# Altium integrated library TI Data Converters Analog to Digital Converter.IntLib: 2197 symbols (part 92 of 168)
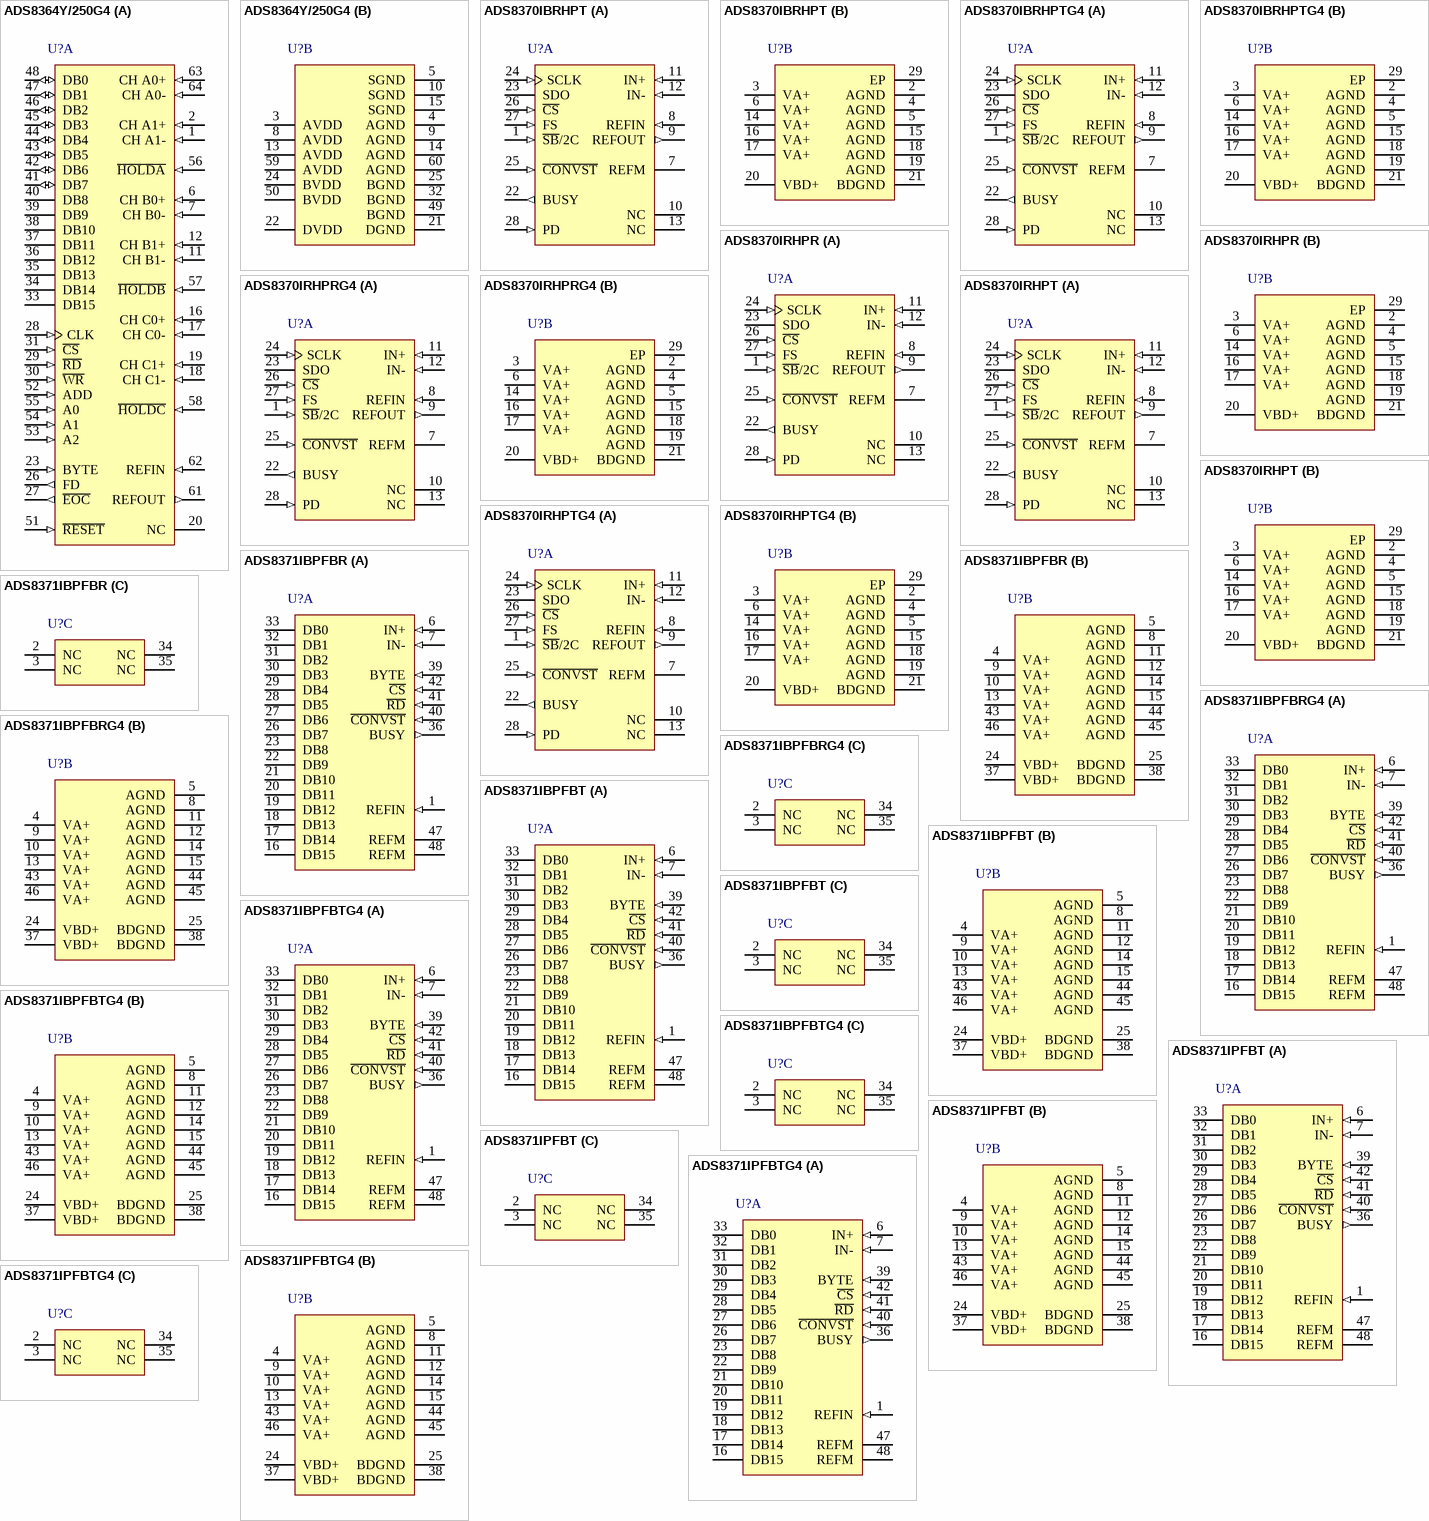
[diagram p217: symbols ADS8364Y/250G4 to ADS8371IPFBTG4]

## ADS8371IPFBT
designator U?
16-Bit 750-kHz Unipolar Input Micro Power Sampling ADC Converter with Parallel, -40 to 85 degC, 48-pin QFP (PFB48), Green (RoHS & no Sb/Br); Manufacturer: Texas Instruments; PartNumber: ADS8371IPFBT; # Input Channels: 1; Analog Voltage AV/DD(Max)(V): 5.25; Analog Voltage AV/DD(Min)(V): 4.75; Architecture: SAR; Digital Supply(Min)(V): 2.7; INL(Max)(+/-LSB): 2.5; Interface: Parallel CMOS; Resolution(Bits): 16; Sample Rate (max)(SPS): 750k; SFDR(dB): 106; SINAD(dB): 87; SubFamily: Precision ADC (<=10MSPS); DatasheetVersion: SLAS390B; PackageVersion: 4073176/B, 10/1996; PackageReference: PFB48; PackageDescription: 48-Pin Plastic Flat Pack, Body 7 x 7 mm, Pitch 0.5 mm; Supplier 1: Digi-Key; Supplier Part Number 1: ADS7812UB/1KE4-ND; Supplier 2: Mouser; Supplier Part Number 2: 595-ADS7812UB/1KE4; Digital Supply(Max)(V): 5.25; Eco-Plan: Green (RoHS & no Sb/Br); SNR(dB): 87; Mounting Technology: Surface Mount; Code_JEDEC: MS-026; ComponentLink1Description: Manufacturer URL; ComponentLink1URL: http://www.ti.com/; ComponentLink2Description: Datasheet; ComponentLink2URL: http://www.ti.com/general/docs/lit/getliterature.tsp?genericPartNumber=ADS8371&fileType=pdf; ComponentLink3Description: Package Specification; ComponentLink3URL: http://www.ti.com/lit/ml/mtqf019a/mtqf019a.pdf
footprint TI-PFB48_N (QFP, 48-Leads, Body 7x7mm, Pitch 0.5mm, IPC Medium Density)
footprint TI-PFB48_L (QFP, 48-Leads, Body 7x7mm, Pitch 0.5mm, IPC High Density)
footprint TI-PFB48_M (QFP, 48-Leads, Body 7x7mm, Pitch 0.5mm, IPC Low Density)
part A pins: 1 REFIN (in) "Reference input.", 6 IN+ (in) "Noninverting input channel", 7 IN- (in) "Inverting input channel", 16 DB15 (hiz), 17 DB14 (hiz), 18 DB13 (hiz), 19 DB12 (hiz), 20 DB11 (hiz), 21 DB10 (hiz), 22 DB9 (hiz), 23 DB8 (hiz), 26 DB7 (hiz), 27 DB6 (hiz), 28 DB5 (hiz), 29 DB4 (hiz), 30 DB3 (hiz), 31 DB2 (hiz), 32 DB1 (hiz), 33 DB0 (hiz), 36 BUSY (out) "Status output. High when a conversion is in progress.", 39 BYTE (in) "Byte select input. Used for 8-bit bus reading. 0: No fold back 1: Low byte D[7:0] of the 16 most significant bits is folded back to high byte of the 16 most significant pins DB[15:8].", 40 ~{CONVST} (in) "Convert start. The falling edge of this input ends the acquisition period and starts the hold period.", 41 ~{RD} (in) "Synchronization pulse for the parallel output. When C\S\ is low, this serves as the output enable and puts the previous conversion result on the bus.", 42 ~{CS} (in) "Chip select. The falling edge of this input starts the acquisition period.", 47 REFM (power) "Reference ground.", 48 REFM (power) "Reference ground."
part B pins: 4 VA+ (power) "Analog power supplies, 5-V dc", 5 AGND (power) "Analog ground", 8 AGND (power) "Analog ground", 9 VA+ (power) "Analog power supplies, 5-V dc", 10 VA+ (power) "Analog power supplies, 5-V dc", 11 AGND (power) "Analog ground", 12 AGND (power) "Analog ground", 13 VA+ (power) "Analog power supplies, 5-V dc", 14 AGND (power) "Analog ground", 15 AGND (power) "Analog ground", 24 VBD+ (power) "Digital power supply for buffer", 25 BDGND (power) "Digital ground for buffer supply", 37 VBD+ (power) "Digital power supply for buffer", 38 BDGND (power) "Digital ground for buffer supply", 43 VA+ (power) "Analog power supplies, 5-V dc", 44 AGND (power) "Analog ground", 45 AGND (power) "Analog ground", 46 VA+ (power) "Analog power supplies, 5-V dc"
part C pins: 2 NC "No connection", 3 NC "No connection", 34 NC "No connection", 35 NC "No connection"

## ADS8371IPFBTG4
designator U?
16-Bit 750-kHz Unipolar Input Micro Power Sampling ADC Converter with Parallel, -40 to 85 degC, 48-pin QFP (PFB48), Green (RoHS & no Sb/Br); Manufacturer: Texas Instruments; PartNumber: ADS8371IPFBTG4; # Input Channels: 1; Analog Voltage AV/DD(Max)(V): 5.25; Analog Voltage AV/DD(Min)(V): 4.75; Architecture: SAR; Digital Supply(Min)(V): 2.7; INL(Max)(+/-LSB): 2.5; Interface: Parallel CMOS; Resolution(Bits): 16; Sample Rate (max)(SPS): 750k; SFDR(dB): 106; SINAD(dB): 87; SubFamily: Precision ADC (<=10MSPS); DatasheetVersion: SLAS390B; PackageVersion: 4073176/B, 10/1996; PackageReference: PFB48; PackageDescription: 48-Pin Plastic Flat Pack, Body 7 x 7 mm, Pitch 0.5 mm; Supplier 1: Digi-Key; Supplier Part Number 1: ADS7812UB/1KG4-ND; Supplier 2: Mouser; Supplier Part Number 2: 595-ADS7812UB/1KG4; Digital Supply(Max)(V): 5.25; Eco-Plan: Green (RoHS & no Sb/Br); SNR(dB): 87; Mounting Technology: Surface Mount; Code_JEDEC: MS-026; ComponentLink1Description: Manufacturer URL; ComponentLink1URL: http://www.ti.com/; ComponentLink2Description: Datasheet; ComponentLink2URL: http://www.ti.com/general/docs/lit/getliterature.tsp?genericPartNumber=ADS8371&fileType=pdf; ComponentLink3Description: Package Specification; ComponentLink3URL: http://www.ti.com/lit/ml/mtqf019a/mtqf019a.pdf
footprint TI-PFB48_N (QFP, 48-Leads, Body 7x7mm, Pitch 0.5mm, IPC Medium Density)
footprint TI-PFB48_L (QFP, 48-Leads, Body 7x7mm, Pitch 0.5mm, IPC High Density)
footprint TI-PFB48_M (QFP, 48-Leads, Body 7x7mm, Pitch 0.5mm, IPC Low Density)
part A pins: 1 REFIN (in) "Reference input.", 6 IN+ (in) "Noninverting input channel", 7 IN- (in) "Inverting input channel", 16 DB15 (hiz), 17 DB14 (hiz), 18 DB13 (hiz), 19 DB12 (hiz), 20 DB11 (hiz), 21 DB10 (hiz), 22 DB9 (hiz), 23 DB8 (hiz), 26 DB7 (hiz), 27 DB6 (hiz), 28 DB5 (hiz), 29 DB4 (hiz), 30 DB3 (hiz), 31 DB2 (hiz), 32 DB1 (hiz), 33 DB0 (hiz), 36 BUSY (out) "Status output. High when a conversion is in progress.", 39 BYTE (in) "Byte select input. Used for 8-bit bus reading. 0: No fold back 1: Low byte D[7:0] of the 16 most significant bits is folded back to high byte of the 16 most significant pins DB[15:8].", 40 ~{CONVST} (in) "Convert start. The falling edge of this input ends the acquisition period and starts the hold period.", 41 ~{RD} (in) "Synchronization pulse for the parallel output. When C\S\ is low, this serves as the output enable and puts the previous conversion result on the bus.", 42 ~{CS} (in) "Chip select. The falling edge of this input starts the acquisition period.", 47 REFM (power) "Reference ground.", 48 REFM (power) "Reference ground."
part B pins: 4 VA+ (power) "Analog power supplies, 5-V dc", 5 AGND (power) "Analog ground", 8 AGND (power) "Analog ground", 9 VA+ (power) "Analog power supplies, 5-V dc", 10 VA+ (power) "Analog power supplies, 5-V dc", 11 AGND (power) "Analog ground", 12 AGND (power) "Analog ground", 13 VA+ (power) "Analog power supplies, 5-V dc", 14 AGND (power) "Analog ground", 15 AGND (power) "Analog ground", 24 VBD+ (power) "Digital power supply for buffer", 25 BDGND (power) "Digital ground for buffer supply", 37 VBD+ (power) "Digital power supply for buffer", 38 BDGND (power) "Digital ground for buffer supply", 43 VA+ (power) "Analog power supplies, 5-V dc", 44 AGND (power) "Analog ground", 45 AGND (power) "Analog ground", 46 VA+ (power) "Analog power supplies, 5-V dc"
part C pins: 2 NC "No connection", 3 NC "No connection", 34 NC "No connection", 35 NC "No connection"

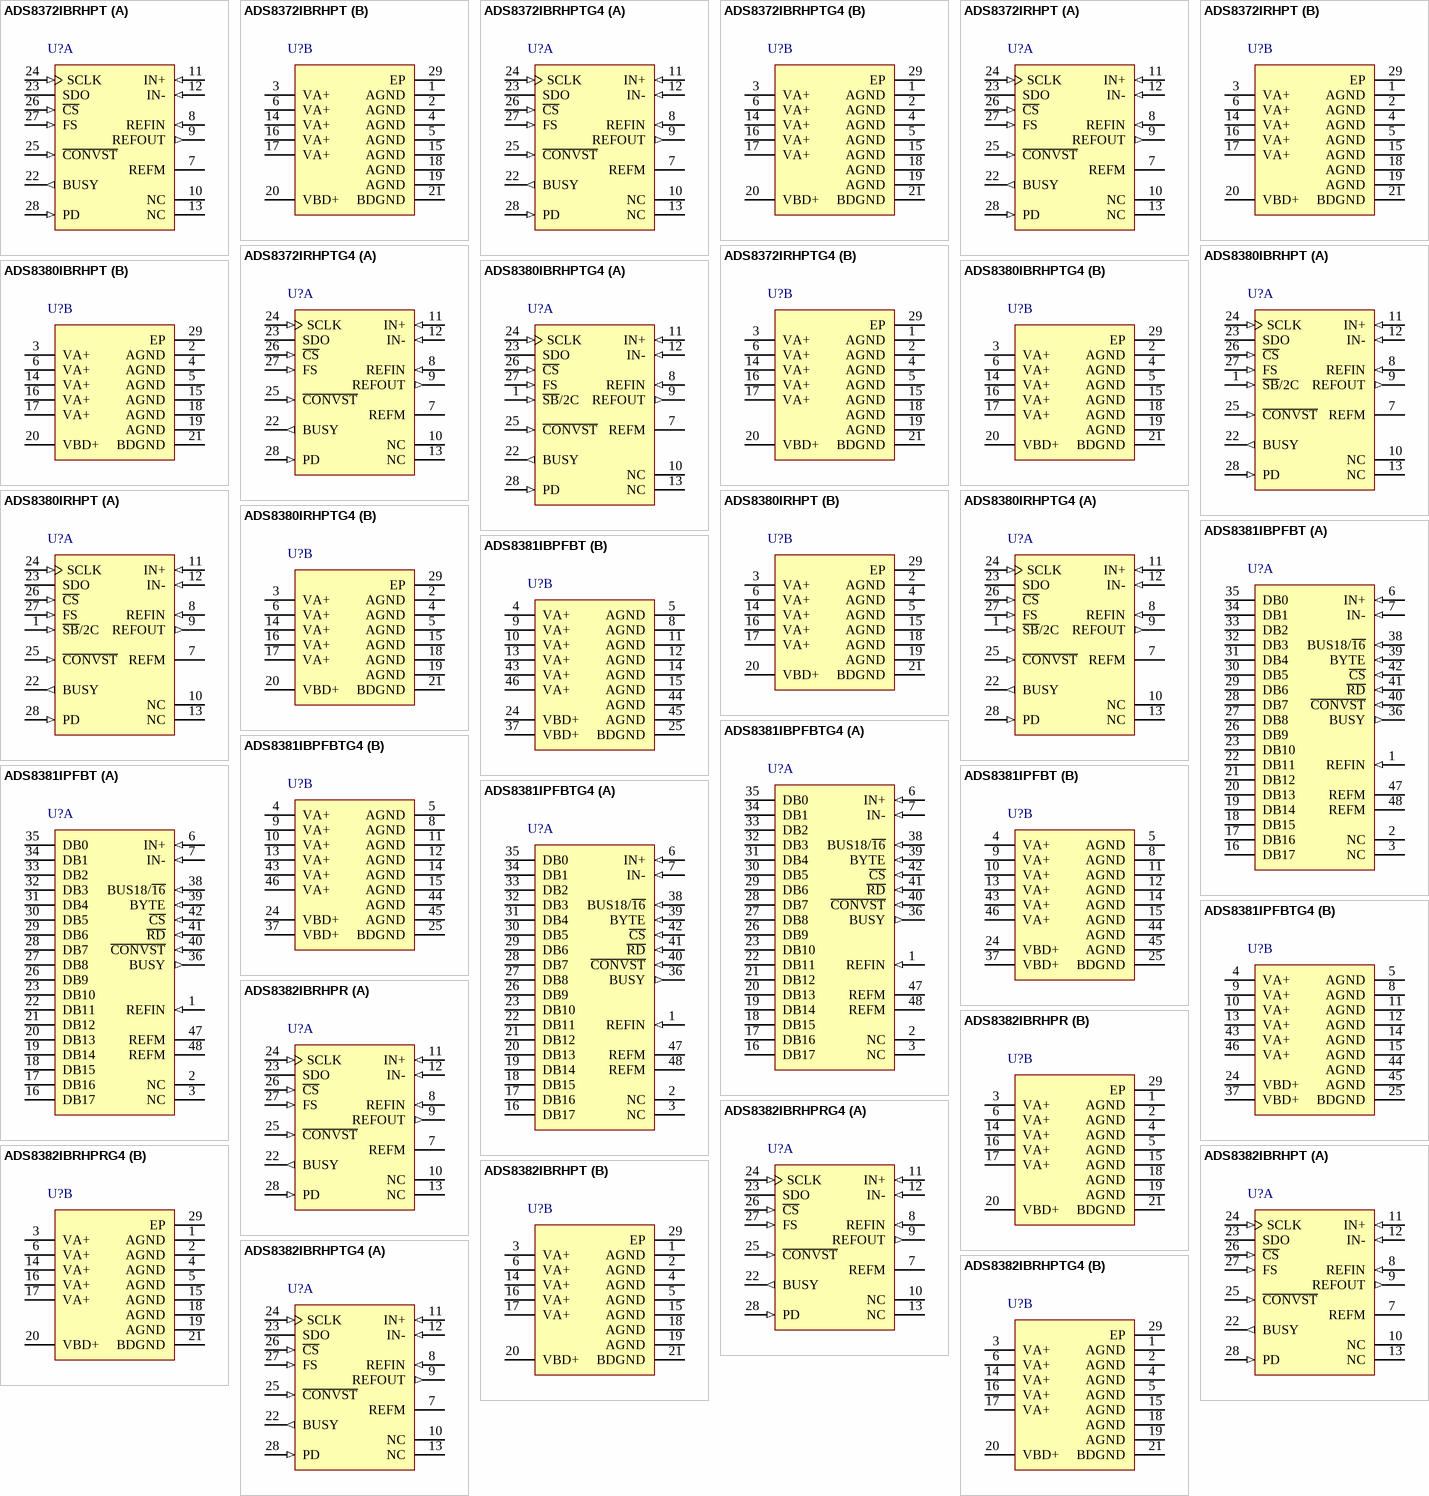
[diagram p79: symbols ADS8372IBRHPT to ADS8382IBRHPTG4]

## ADS8372IBRHPT
designator U?
16-Bit 600 kSPS Serial ADC with Reference and Pseudo Bipolar, Fully Differential Input, -40 to 85 degC, 28-pin QFN (RHP28), Green (RoHS & no Sb/Br); Manufacturer: Texas Instruments; PartNumber: ADS8372IBRHPT; # Input Channels: 1; Analog Voltage AV/DD(Max)(V): 5.25; Analog Voltage AV/DD(Min)(V): 4.75; Architecture: SAR; Digital Supply(Min)(V): 2.7; INL(Max)(+/-LSB): 0.75; Resolution(Bits): 16; Sample Rate (max)(SPS): 600k; SFDR(dB): 120; SINAD(dB): 93.5; SubFamily: Precision ADC (<=10MSPS); DatasheetVersion: SLAS451; PackageVersion: 4205387/C, 01/2011; PackageReference: RHP28-4450X4450TP; PackageDescription: 28-Lead, Plastic Flat Pack, Body Size 6 x 6 mm, Pitch 0.65 mm; Supplier 1: Digi-Key; Supplier Part Number 1: ADS7812UBE4-ND; Supplier 2: Mouser; Supplier Part Number 2: 595-ADS7812UBE4; Digital Supply(Max)(V): 5.25; Eco-Plan: Green (RoHS & no Sb/Br); Interface: Serial; SNR(dB): 93.5; Mounting Technology: Surface Mount; ComponentLink1Description: Manufacturer URL; ComponentLink1URL: http://www.ti.com/; ComponentLink2Description: Datasheet; ComponentLink2URL: http://www.ti.com/general/docs/lit/getliterature.tsp?genericPartNumber=ADS8372&fileType=pdf; ComponentLink3Description: Package Specification; ComponentLink3URL: http://www.ti.com/litv/pdf/mpqf154b
footprint TI-RHP28-4450X4450TP_V (QFN, 28-Leads, Body 6x6mm, Pitch 0.65mm, Thermal Pad 4.45x4.45mm)
part A pins: 7 REFM (power) "Reference ground. To be connected to analog ground plane.", 8 REFIN (in) "Reference (positive) input. REFIN must be decoupled with REFM pin using 0.1-uF bypass capacitor and 1-uF storage capacitor.", 9 REFOUT (out) "Internal reference output. Shorted to REFIN pin only when internal reference is used.", 10 NC "No connection", 11 IN+ (in) "Noninverting analog input channel", 12 IN- (in) "Inverting analog input channel", 13 NC "No connection", 22 BUSY (out) "Status output. This pin is high when conversion is in progress.", 23 SDO (hiz) "Serial data out. All bits except MSB are shifted out at the rising edge of SCLK.", 24 SCLK (in) "Serial clock. Data is shifted onto SDO with the rising edge of this clock. This signal is qualified with C\S\ internally.", 25 ~{CONVST} (in) "Convert start. This signal is qualified with C\S\ internally.", 26 ~{CS} (in) "Chip select", 27 FS (in) "Frame sync. This signal is qualified with C\S\ internally.", 28 PD (in) "Power down. Device resets and powers down when this signal is high."
part B pins: 1 AGND (power) "Analog ground pins. AGND must be shorted to analog ground plane below the device.", 2 AGND (power) "Analog ground pins. AGND must be shorted to analog ground plane below the device.", 3 VA+ (power) "Analog power supplies", 4 AGND (power) "Analog ground pins. AGND must be shorted to analog ground plane below the device.", 5 AGND (power) "Analog ground pins. AGND must be shorted to analog ground plane below the device.", 6 VA+ (power) "Analog power supplies", 14 VA+ (power) "Analog power supplies", 15 AGND (power) "Analog ground pins. AGND must be shorted to analog ground plane below the device.", 16 VA+ (power) "Analog power supplies", 17 VA+ (power) "Analog power supplies", 18 AGND (power) "Analog ground pins. AGND must be shorted to analog ground plane below the device.", 19 AGND (power) "Analog ground pins. AGND must be shorted to analog ground plane below the device.", 20 VBD+ (power) "Digital power supply for all digital inputs and outputs.", 21 BDGND (power) "Digital ground for all digital inputs and outputs. BDGND must be shorted to the analog ground plane below the device.", 29 EP "The package thermal pad must be soldered to the printed circuit board for thermal and mechanical performance"

## ADS8372IBRHPTG4
designator U?
16-Bit 600 kSPS Serial ADC with Reference and Pseudo Bipolar, Fully Differential Input, -40 to 85 degC, 28-pin QFN (RHP28), Green (RoHS & no Sb/Br); Manufacturer: Texas Instruments; PartNumber: ADS8372IBRHPTG4; # Input Channels: 1; Analog Voltage AV/DD(Max)(V): 5.25; Analog Voltage AV/DD(Min)(V): 4.75; Architecture: SAR; Digital Supply(Min)(V): 2.7; INL(Max)(+/-LSB): 0.75; Resolution(Bits): 16; Sample Rate (max)(SPS): 600k; SFDR(dB): 120; SINAD(dB): 93.5; SubFamily: Precision ADC (<=10MSPS); DatasheetVersion: SLAS451; PackageVersion: 4205387/C, 01/2011; PackageReference: RHP28-4450X4450TP; PackageDescription: 28-Lead, Plastic Flat Pack, Body Size 6 x 6 mm, Pitch 0.65 mm; Supplier 1: Digi-Key; Supplier Part Number 1: ADS7812UBG4-ND; Supplier 2: Mouser; Supplier Part Number 2: 595-ADS7812UBG4; Digital Supply(Max)(V): 5.25; Eco-Plan: Green (RoHS & no Sb/Br); Interface: Serial; SNR(dB): 93.5; Mounting Technology: Surface Mount; ComponentLink1Description: Manufacturer URL; ComponentLink1URL: http://www.ti.com/; ComponentLink2Description: Datasheet; ComponentLink2URL: http://www.ti.com/general/docs/lit/getliterature.tsp?genericPartNumber=ADS8372&fileType=pdf; ComponentLink3Description: Package Specification; ComponentLink3URL: http://www.ti.com/litv/pdf/mpqf154b
footprint TI-RHP28-4450X4450TP_V (QFN, 28-Leads, Body 6x6mm, Pitch 0.65mm, Thermal Pad 4.45x4.45mm)
part A pins: 7 REFM (power) "Reference ground. To be connected to analog ground plane.", 8 REFIN (in) "Reference (positive) input. REFIN must be decoupled with REFM pin using 0.1-uF bypass capacitor and 1-uF storage capacitor.", 9 REFOUT (out) "Internal reference output. Shorted to REFIN pin only when internal reference is used.", 10 NC "No connection", 11 IN+ (in) "Noninverting analog input channel", 12 IN- (in) "Inverting analog input channel", 13 NC "No connection", 22 BUSY (out) "Status output. This pin is high when conversion is in progress.", 23 SDO (hiz) "Serial data out. All bits except MSB are shifted out at the rising edge of SCLK.", 24 SCLK (in) "Serial clock. Data is shifted onto SDO with the rising edge of this clock. This signal is qualified with C\S\ internally.", 25 ~{CONVST} (in) "Convert start. This signal is qualified with C\S\ internally.", 26 ~{CS} (in) "Chip select", 27 FS (in) "Frame sync. This signal is qualified with C\S\ internally.", 28 PD (in) "Power down. Device resets and powers down when this signal is high."
part B pins: 1 AGND (power) "Analog ground pins. AGND must be shorted to analog ground plane below the device.", 2 AGND (power) "Analog ground pins. AGND must be shorted to analog ground plane below the device.", 3 VA+ (power) "Analog power supplies", 4 AGND (power) "Analog ground pins. AGND must be shorted to analog ground plane below the device.", 5 AGND (power) "Analog ground pins. AGND must be shorted to analog ground plane below the device.", 6 VA+ (power) "Analog power supplies", 14 VA+ (power) "Analog power supplies", 15 AGND (power) "Analog ground pins. AGND must be shorted to analog ground plane below the device.", 16 VA+ (power) "Analog power supplies", 17 VA+ (power) "Analog power supplies", 18 AGND (power) "Analog ground pins. AGND must be shorted to analog ground plane below the device.", 19 AGND (power) "Analog ground pins. AGND must be shorted to analog ground plane below the device.", 20 VBD+ (power) "Digital power supply for all digital inputs and outputs.", 21 BDGND (power) "Digital ground for all digital inputs and outputs. BDGND must be shorted to the analog ground plane below the device.", 29 EP "The package thermal pad must be soldered to the printed circuit board for thermal and mechanical performance"

## ADS8372IRHPT
designator U?
16-Bit 600 kSPS Serial ADC with Reference and Pseudo Bipolar, Fully Differential Input, -40 to 85 degC, 28-pin QFN (RHP28), Green (RoHS & no Sb/Br); Manufacturer: Texas Instruments; PartNumber: ADS8372IRHPT; # Input Channels: 1; Analog Voltage AV/DD(Max)(V): 5.25; Analog Voltage AV/DD(Min)(V): 4.75; Architecture: SAR; Digital Supply(Min)(V): 2.7; INL(Max)(+/-LSB): 1.5; Resolution(Bits): 16; Sample Rate (max)(SPS): 600k; SFDR(dB): 120; SINAD(dB): 93.5; SubFamily: Precision ADC (<=10MSPS); DatasheetVersion: SLAS451; PackageVersion: 4205387/C, 01/2011; PackageReference: RHP28-4450X4450TP; PackageDescription: 28-Lead, Plastic Flat Pack, Body Size 6 x 6 mm, Pitch 0.65 mm; Supplier 1: Digi-Key; Supplier Part Number 1: ADS7812UE4-ND; Supplier 2: Mouser; Supplier Part Number 2: 595-ADS7812UE4; Digital Supply(Max)(V): 5.25; Eco-Plan: Green (RoHS & no Sb/Br); Interface: Serial; SNR(dB): 93.5; Mounting Technology: Surface Mount; ComponentLink1Description: Manufacturer URL; ComponentLink1URL: http://www.ti.com/; ComponentLink2Description: Datasheet; ComponentLink2URL: http://www.ti.com/general/docs/lit/getliterature.tsp?genericPartNumber=ADS8372&fileType=pdf; ComponentLink3Description: Package Specification; ComponentLink3URL: http://www.ti.com/litv/pdf/mpqf154b
footprint TI-RHP28-4450X4450TP_V (QFN, 28-Leads, Body 6x6mm, Pitch 0.65mm, Thermal Pad 4.45x4.45mm)
part A pins: 7 REFM (power) "Reference ground. To be connected to analog ground plane.", 8 REFIN (in) "Reference (positive) input. REFIN must be decoupled with REFM pin using 0.1-uF bypass capacitor and 1-uF storage capacitor.", 9 REFOUT (out) "Internal reference output. Shorted to REFIN pin only when internal reference is used.", 10 NC "No connection", 11 IN+ (in) "Noninverting analog input channel", 12 IN- (in) "Inverting analog input channel", 13 NC "No connection", 22 BUSY (out) "Status output. This pin is high when conversion is in progress.", 23 SDO (hiz) "Serial data out. All bits except MSB are shifted out at the rising edge of SCLK.", 24 SCLK (in) "Serial clock. Data is shifted onto SDO with the rising edge of this clock. This signal is qualified with C\S\ internally.", 25 ~{CONVST} (in) "Convert start. This signal is qualified with C\S\ internally.", 26 ~{CS} (in) "Chip select", 27 FS (in) "Frame sync. This signal is qualified with C\S\ internally.", 28 PD (in) "Power down. Device resets and powers down when this signal is high."
part B pins: 1 AGND (power) "Analog ground pins. AGND must be shorted to analog ground plane below the device.", 2 AGND (power) "Analog ground pins. AGND must be shorted to analog ground plane below the device.", 3 VA+ (power) "Analog power supplies", 4 AGND (power) "Analog ground pins. AGND must be shorted to analog ground plane below the device.", 5 AGND (power) "Analog ground pins. AGND must be shorted to analog ground plane below the device.", 6 VA+ (power) "Analog power supplies", 14 VA+ (power) "Analog power supplies", 15 AGND (power) "Analog ground pins. AGND must be shorted to analog ground plane below the device.", 16 VA+ (power) "Analog power supplies", 17 VA+ (power) "Analog power supplies", 18 AGND (power) "Analog ground pins. AGND must be shorted to analog ground plane below the device.", 19 AGND (power) "Analog ground pins. AGND must be shorted to analog ground plane below the device.", 20 VBD+ (power) "Digital power supply for all digital inputs and outputs.", 21 BDGND (power) "Digital ground for all digital inputs and outputs. BDGND must be shorted to the analog ground plane below the device.", 29 EP "The package thermal pad must be soldered to the printed circuit board for thermal and mechanical performance"

## ADS8372IRHPTG4
designator U?
16-Bit 600 kSPS Serial ADC with Reference and Pseudo Bipolar, Fully Differential Input, -40 to 85 degC, 28-pin QFN (RHP28), Green (RoHS & no Sb/Br); Manufacturer: Texas Instruments; PartNumber: ADS8372IRHPTG4; # Input Channels: 1; Analog Voltage AV/DD(Max)(V): 5.25; Analog Voltage AV/DD(Min)(V): 4.75; Architecture: SAR; Digital Supply(Min)(V): 2.7; INL(Max)(+/-LSB): 1.5; Resolution(Bits): 16; Sample Rate (max)(SPS): 600k; SFDR(dB): 120; SINAD(dB): 93.5; SubFamily: Precision ADC (<=10MSPS); DatasheetVersion: SLAS451; PackageVersion: 4205387/C, 01/2011; PackageReference: RHP28-4450X4450TP; PackageDescription: 28-Lead, Plastic Flat Pack, Body Size 6 x 6 mm, Pitch 0.65 mm; Supplier 1: Digi-Key; Supplier Part Number 1: ADS7812UG4-ND; Supplier 2: Mouser; Supplier Part Number 2: 595-ADS7812UG4; Digital Supply(Max)(V): 5.25; Eco-Plan: Green (RoHS & no Sb/Br); Interface: Serial; SNR(dB): 93.5; Mounting Technology: Surface Mount; ComponentLink1Description: Manufacturer URL; ComponentLink1URL: http://www.ti.com/; ComponentLink2Description: Datasheet; ComponentLink2URL: http://www.ti.com/general/docs/lit/getliterature.tsp?genericPartNumber=ADS8372&fileType=pdf; ComponentLink3Description: Package Specification; ComponentLink3URL: http://www.ti.com/litv/pdf/mpqf154b
footprint TI-RHP28-4450X4450TP_V (QFN, 28-Leads, Body 6x6mm, Pitch 0.65mm, Thermal Pad 4.45x4.45mm)
part A pins: 7 REFM (power) "Reference ground. To be connected to analog ground plane.", 8 REFIN (in) "Reference (positive) input. REFIN must be decoupled with REFM pin using 0.1-uF bypass capacitor and 1-uF storage capacitor.", 9 REFOUT (out) "Internal reference output. Shorted to REFIN pin only when internal reference is used.", 10 NC "No connection", 11 IN+ (in) "Noninverting analog input channel", 12 IN- (in) "Inverting analog input channel", 13 NC "No connection", 22 BUSY (out) "Status output. This pin is high when conversion is in progress.", 23 SDO (hiz) "Serial data out. All bits except MSB are shifted out at the rising edge of SCLK.", 24 SCLK (in) "Serial clock. Data is shifted onto SDO with the rising edge of this clock. This signal is qualified with C\S\ internally.", 25 ~{CONVST} (in) "Convert start. This signal is qualified with C\S\ internally.", 26 ~{CS} (in) "Chip select", 27 FS (in) "Frame sync. This signal is qualified with C\S\ internally.", 28 PD (in) "Power down. Device resets and powers down when this signal is high."
part B pins: 1 AGND (power) "Analog ground pins. AGND must be shorted to analog ground plane below the device.", 2 AGND (power) "Analog ground pins. AGND must be shorted to analog ground plane below the device.", 3 VA+ (power) "Analog power supplies", 4 AGND (power) "Analog ground pins. AGND must be shorted to analog ground plane below the device.", 5 AGND (power) "Analog ground pins. AGND must be shorted to analog ground plane below the device.", 6 VA+ (power) "Analog power supplies", 14 VA+ (power) "Analog power supplies", 15 AGND (power) "Analog ground pins. AGND must be shorted to analog ground plane below the device.", 16 VA+ (power) "Analog power supplies", 17 VA+ (power) "Analog power supplies", 18 AGND (power) "Analog ground pins. AGND must be shorted to analog ground plane below the device.", 19 AGND (power) "Analog ground pins. AGND must be shorted to analog ground plane below the device.", 20 VBD+ (power) "Digital power supply for all digital inputs and outputs.", 21 BDGND (power) "Digital ground for all digital inputs and outputs. BDGND must be shorted to the analog ground plane below the device.", 29 EP "The package thermal pad must be soldered to the printed circuit board for thermal and mechanical performance"

## ADS8380IBRHPT
designator U?
18-Bit 600 kSPS Serial ADC with Reference and Unipolar Pseudo Differential Input, -40 to 85 degC, 28-pin QFN (RHP28), Green (RoHS & no Sb/Br); Manufacturer: Texas Instruments; PartNumber: ADS8380IBRHPT; # Input Channels: 1; Analog Voltage AV/DD(Max)(V): 5.25; Analog Voltage AV/DD(Min)(V): 4.75; Architecture: SAR; Digital Supply(Min)(V): 2.7; INL(Max)(+/-LSB): 4; Interface: Serial SPI; Resolution(Bits): 18; Sample Rate (max)(SPS): 600k; SFDR(dB): 119; SINAD(dB): 91; SubFamily: Precision ADC (<=10MSPS); DatasheetVersion: SLAS387A; PackageVersion: 4205387/C, 01/2011; PackageReference: RHP28-4450X4450TP; PackageDescription: 28-Lead, Plastic Flat Pack, Body Size 6 x 6 mm, Pitch 0.65 mm; Supplier 1: Digi-Key; Supplier Part Number 1: ADS900E-ND; Supplier 2: Farnell; Supplier Part Number 2: 1459301; Supplier 3: Newark; Supplier Part Number 3: 61M4845; Supplier 4: Newark; Supplier Part Number 4: 74C7264; Supplier 5: Mouser; Supplier Part Number 5: 595-ADS900E; Digital Supply(Max)(V): 5.25; Eco-Plan: Green (RoHS & no Sb/Br); SNR(dB): 91; Mounting Technology: Surface Mount; ComponentLink1Description: Manufacturer URL; ComponentLink1URL: http://www.ti.com/; ComponentLink2Description: Datasheet; ComponentLink2URL: http://www.ti.com/general/docs/lit/getliterature.tsp?genericPartNumber=ADS8380&fileType=pdf; ComponentLink3Description: Package Specification; ComponentLink3URL: http://www.ti.com/litv/pdf/mpqf154b
footprint TI-RHP28-4450X4450TP_V (QFN, 28-Leads, Body 6x6mm, Pitch 0.65mm, Thermal Pad 4.45x4.45mm)
part A pins: 1 ~{SB}/2C (in), 7 REFM (power) "Reference ground. To be connected to analog ground plane.", 8 REFIN (in) "Reference (positive) input. REFIN must be decoupled with REFM pin using 0.1-uF bypass capacitor and 1-uF storage capacitor.", 9 REFOUT (out) "Internal reference output. Shorted to REFIN pin only when internal reference is used.", 10 NC "No connection", 11 IN+ (in) "Noninverting analog input channel", 12 IN- (in) "Inverting analog input channel", 13 NC "No connection", 22 BUSY (out) "Status output. This pin is high when conversion is in progress.", 23 SDO (hiz) "Serial data out. All bits except MSB are shifted out at the rising edge of SCLK.", 24 SCLK (in) "Serial clock. Data is shifted onto SDO with the rising edge of this clock. This signal is qualified with CS internally.", 25 ~{CONVST} (in) "Convert start. This signal is qualified with C\S\ internally.", 26 ~{CS} (in) "Chip select", 27 FS (in) "Frame sync. This signal is qualified with C\S\ internally.", 28 PD (in) "Power down. Device resets and powers down when this signal is high."
part B pins: 2 AGND (power) "Analog ground pins. AGND must be shorted to analog ground plane below the device.", 3 VA+ (power) "Analog power supplies", 4 AGND (power) "Analog ground pins. AGND must be shorted to analog ground plane below the device.", 5 AGND (power) "Analog ground pins. AGND must be shorted to analog ground plane below the device.", 6 VA+ (power) "Analog power supplies", 14 VA+ (power) "Analog power supplies", 15 AGND (power) "Analog ground pins. AGND must be shorted to analog ground plane below the device.", 16 VA+ (power) "Analog power supplies", 17 VA+ (power) "Analog power supplies", 18 AGND (power) "Analog ground pins. AGND must be shorted to analog ground plane below the device.", 19 AGND (power) "Analog ground pins. AGND must be shorted to analog ground plane below the device.", 20 VBD+ (power) "Digital power supply for all digital inputs and outputs.", 21 BDGND (power) "Digital ground for all digital inputs and outputs. BDGND must be shorted to the analog ground plane below the device.", 29 EP

## ADS8380IBRHPTG4
designator U?
18-Bit 600 kSPS Serial ADC with Reference and Unipolar Pseudo Differential Input, -40 to 85 degC, 28-pin QFN (RHP28), Green (RoHS & no Sb/Br); Manufacturer: Texas Instruments; PartNumber: ADS8380IBRHPTG4; # Input Channels: 1; Analog Voltage AV/DD(Max)(V): 5.25; Analog Voltage AV/DD(Min)(V): 4.75; Architecture: SAR; Digital Supply(Min)(V): 2.7; INL(Max)(+/-LSB): 4; Interface: Serial SPI; Resolution(Bits): 18; Sample Rate (max)(SPS): 600k; SFDR(dB): 119; SINAD(dB): 91; SubFamily: Precision ADC (<=10MSPS); DatasheetVersion: SLAS387A; PackageVersion: 4205387/C, 01/2011; PackageReference: RHP28-4450X4450TP; PackageDescription: 28-Lead, Plastic Flat Pack, Body Size 6 x 6 mm, Pitch 0.65 mm; Supplier 1: Digi-Key; Supplier Part Number 1: ADS900E/1K-ND; Supplier 2: Mouser; Supplier Part Number 2: 595-ADS900E/1K; Digital Supply(Max)(V): 5.25; Eco-Plan: Green (RoHS & no Sb/Br); SNR(dB): 91; Mounting Technology: Surface Mount; ComponentLink1Description: Manufacturer URL; ComponentLink1URL: http://www.ti.com/; ComponentLink2Description: Datasheet; ComponentLink2URL: http://www.ti.com/general/docs/lit/getliterature.tsp?genericPartNumber=ADS8380&fileType=pdf; ComponentLink3Description: Package Specification; ComponentLink3URL: http://www.ti.com/litv/pdf/mpqf154b
footprint TI-RHP28-4450X4450TP_V (QFN, 28-Leads, Body 6x6mm, Pitch 0.65mm, Thermal Pad 4.45x4.45mm)
part A pins: 1 ~{SB}/2C (in), 7 REFM (power) "Reference ground. To be connected to analog ground plane.", 8 REFIN (in) "Reference (positive) input. REFIN must be decoupled with REFM pin using 0.1-uF bypass capacitor and 1-uF storage capacitor.", 9 REFOUT (out) "Internal reference output. Shorted to REFIN pin only when internal reference is used.", 10 NC "No connection", 11 IN+ (in) "Noninverting analog input channel", 12 IN- (in) "Inverting analog input channel", 13 NC "No connection", 22 BUSY (out) "Status output. This pin is high when conversion is in progress.", 23 SDO (hiz) "Serial data out. All bits except MSB are shifted out at the rising edge of SCLK.", 24 SCLK (in) "Serial clock. Data is shifted onto SDO with the rising edge of this clock. This signal is qualified with CS internally.", 25 ~{CONVST} (in) "Convert start. This signal is qualified with C\S\ internally.", 26 ~{CS} (in) "Chip select", 27 FS (in) "Frame sync. This signal is qualified with C\S\ internally.", 28 PD (in) "Power down. Device resets and powers down when this signal is high."
part B pins: 2 AGND (power) "Analog ground pins. AGND must be shorted to analog ground plane below the device.", 3 VA+ (power) "Analog power supplies", 4 AGND (power) "Analog ground pins. AGND must be shorted to analog ground plane below the device.", 5 AGND (power) "Analog ground pins. AGND must be shorted to analog ground plane below the device.", 6 VA+ (power) "Analog power supplies", 14 VA+ (power) "Analog power supplies", 15 AGND (power) "Analog ground pins. AGND must be shorted to analog ground plane below the device.", 16 VA+ (power) "Analog power supplies", 17 VA+ (power) "Analog power supplies", 18 AGND (power) "Analog ground pins. AGND must be shorted to analog ground plane below the device.", 19 AGND (power) "Analog ground pins. AGND must be shorted to analog ground plane below the device.", 20 VBD+ (power) "Digital power supply for all digital inputs and outputs.", 21 BDGND (power) "Digital ground for all digital inputs and outputs. BDGND must be shorted to the analog ground plane below the device.", 29 EP

## ADS8380IRHPT
designator U?
18-Bit 600 kSPS Serial ADC with Reference and Unipolar Pseudo Differential Input, -40 to 85 degC, 28-pin QFN (RHP28), Green (RoHS & no Sb/Br); Manufacturer: Texas Instruments; PartNumber: ADS8380IRHPT; # Input Channels: 1; Analog Voltage AV/DD(Max)(V): 5.25; Analog Voltage AV/DD(Min)(V): 4.75; Architecture: SAR; Digital Supply(Min)(V): 2.7; INL(Max)(+/-LSB): 6; Interface: Serial SPI; Resolution(Bits): 18; Sample Rate (max)(SPS): 600k; SFDR(dB): 119; SINAD(dB): 91; SubFamily: Precision ADC (<=10MSPS); DatasheetVersion: SLAS387A; PackageVersion: 4205387/C, 01/2011; PackageReference: RHP28-4450X4450TP; PackageDescription: 28-Lead, Plastic Flat Pack, Body Size 6 x 6 mm, Pitch 0.65 mm; Supplier 1: Digi-Key; Supplier Part Number 1: ADS900E/1KG4-ND; Supplier 2: Mouser; Supplier Part Number 2: 595-ADS900E/1KG4; Digital Supply(Max)(V): 5.25; Eco-Plan: Green (RoHS & no Sb/Br); SNR(dB): 91; Mounting Technology: Surface Mount; ComponentLink1Description: Manufacturer URL; ComponentLink1URL: http://www.ti.com/; ComponentLink2Description: Datasheet; ComponentLink2URL: http://www.ti.com/general/docs/lit/getliterature.tsp?genericPartNumber=ADS8380&fileType=pdf; ComponentLink3Description: Package Specification; ComponentLink3URL: http://www.ti.com/litv/pdf/mpqf154b
footprint TI-RHP28-4450X4450TP_V (QFN, 28-Leads, Body 6x6mm, Pitch 0.65mm, Thermal Pad 4.45x4.45mm)
part A pins: 1 ~{SB}/2C (in), 7 REFM (power) "Reference ground. To be connected to analog ground plane.", 8 REFIN (in) "Reference (positive) input. REFIN must be decoupled with REFM pin using 0.1-uF bypass capacitor and 1-uF storage capacitor.", 9 REFOUT (out) "Internal reference output. Shorted to REFIN pin only when internal reference is used.", 10 NC "No connection", 11 IN+ (in) "Noninverting analog input channel", 12 IN- (in) "Inverting analog input channel", 13 NC "No connection", 22 BUSY (out) "Status output. This pin is high when conversion is in progress.", 23 SDO (hiz) "Serial data out. All bits except MSB are shifted out at the rising edge of SCLK.", 24 SCLK (in) "Serial clock. Data is shifted onto SDO with the rising edge of this clock. This signal is qualified with CS internally.", 25 ~{CONVST} (in) "Convert start. This signal is qualified with C\S\ internally.", 26 ~{CS} (in) "Chip select", 27 FS (in) "Frame sync. This signal is qualified with C\S\ internally.", 28 PD (in) "Power down. Device resets and powers down when this signal is high."
part B pins: 2 AGND (power) "Analog ground pins. AGND must be shorted to analog ground plane below the device.", 3 VA+ (power) "Analog power supplies", 4 AGND (power) "Analog ground pins. AGND must be shorted to analog ground plane below the device.", 5 AGND (power) "Analog ground pins. AGND must be shorted to analog ground plane below the device.", 6 VA+ (power) "Analog power supplies", 14 VA+ (power) "Analog power supplies", 15 AGND (power) "Analog ground pins. AGND must be shorted to analog ground plane below the device.", 16 VA+ (power) "Analog power supplies", 17 VA+ (power) "Analog power supplies", 18 AGND (power) "Analog ground pins. AGND must be shorted to analog ground plane below the device.", 19 AGND (power) "Analog ground pins. AGND must be shorted to analog ground plane below the device.", 20 VBD+ (power) "Digital power supply for all digital inputs and outputs.", 21 BDGND (power) "Digital ground for all digital inputs and outputs. BDGND must be shorted to the analog ground plane below the device.", 29 EP

## ADS8380IRHPTG4
designator U?
18-Bit 600 kSPS Serial ADC with Reference and Unipolar Pseudo Differential Input, -40 to 85 degC, 28-pin QFN (RHP28), Green (RoHS & no Sb/Br); Manufacturer: Texas Instruments; PartNumber: ADS8380IRHPTG4; # Input Channels: 1; Analog Voltage AV/DD(Max)(V): 5.25; Analog Voltage AV/DD(Min)(V): 4.75; Architecture: SAR; Digital Supply(Min)(V): 2.7; INL(Max)(+/-LSB): 6; Interface: Serial SPI; Resolution(Bits): 18; Sample Rate (max)(SPS): 600k; SFDR(dB): 119; SINAD(dB): 91; SubFamily: Precision ADC (<=10MSPS); DatasheetVersion: SLAS387A; PackageVersion: 4205387/C, 01/2011; PackageReference: RHP28-4450X4450TP; PackageDescription: 28-Lead, Plastic Flat Pack, Body Size 6 x 6 mm, Pitch 0.65 mm; Supplier 1: Digi-Key; Supplier Part Number 1: ADS900EG4-ND; Supplier 2: Mouser; Supplier Part Number 2: 595-ADS900EG4; Digital Supply(Max)(V): 5.25; Eco-Plan: Green (RoHS & no Sb/Br); SNR(dB): 91; Mounting Technology: Surface Mount; ComponentLink1Description: Manufacturer URL; ComponentLink1URL: http://www.ti.com/; ComponentLink2Description: Datasheet; ComponentLink2URL: http://www.ti.com/general/docs/lit/getliterature.tsp?genericPartNumber=ADS8380&fileType=pdf; ComponentLink3Description: Package Specification; ComponentLink3URL: http://www.ti.com/litv/pdf/mpqf154b
footprint TI-RHP28-4450X4450TP_V (QFN, 28-Leads, Body 6x6mm, Pitch 0.65mm, Thermal Pad 4.45x4.45mm)
part A pins: 1 ~{SB}/2C (in), 7 REFM (power) "Reference ground. To be connected to analog ground plane.", 8 REFIN (in) "Reference (positive) input. REFIN must be decoupled with REFM pin using 0.1-uF bypass capacitor and 1-uF storage capacitor.", 9 REFOUT (out) "Internal reference output. Shorted to REFIN pin only when internal reference is used.", 10 NC "No connection", 11 IN+ (in) "Noninverting analog input channel", 12 IN- (in) "Inverting analog input channel", 13 NC "No connection", 22 BUSY (out) "Status output. This pin is high when conversion is in progress.", 23 SDO (hiz) "Serial data out. All bits except MSB are shifted out at the rising edge of SCLK.", 24 SCLK (in) "Serial clock. Data is shifted onto SDO with the rising edge of this clock. This signal is qualified with CS internally.", 25 ~{CONVST} (in) "Convert start. This signal is qualified with C\S\ internally.", 26 ~{CS} (in) "Chip select", 27 FS (in) "Frame sync. This signal is qualified with C\S\ internally.", 28 PD (in) "Power down. Device resets and powers down when this signal is high."
part B pins: 2 AGND (power) "Analog ground pins. AGND must be shorted to analog ground plane below the device.", 3 VA+ (power) "Analog power supplies", 4 AGND (power) "Analog ground pins. AGND must be shorted to analog ground plane below the device.", 5 AGND (power) "Analog ground pins. AGND must be shorted to analog ground plane below the device.", 6 VA+ (power) "Analog power supplies", 14 VA+ (power) "Analog power supplies", 15 AGND (power) "Analog ground pins. AGND must be shorted to analog ground plane below the device.", 16 VA+ (power) "Analog power supplies", 17 VA+ (power) "Analog power supplies", 18 AGND (power) "Analog ground pins. AGND must be shorted to analog ground plane below the device.", 19 AGND (power) "Analog ground pins. AGND must be shorted to analog ground plane below the device.", 20 VBD+ (power) "Digital power supply for all digital inputs and outputs.", 21 BDGND (power) "Digital ground for all digital inputs and outputs. BDGND must be shorted to the analog ground plane below the device.", 29 EP

## ADS8381IBPFBT
designator U?
18-Bit 580 kSPS Parallel ADC, -40 to 85 degC, 48-pin QFP (PFB48), Green (RoHS & no Sb/Br); Manufacturer: Texas Instruments; PartNumber: ADS8381IBPFBT; # Input Channels: 1; Analog Voltage AV/DD(Max)(V): 5.25; Analog Voltage AV/DD(Min)(V): 4.75; Architecture: SAR; Digital Supply(Min)(V): 2.7; INL(Max)(+/-LSB): 4; Interface: Parallel CMOS; Resolution(Bits): 18; Sample Rate (max)(SPS): 600k; SFDR(dB): 113; SINAD(dB): 88; SubFamily: Precision ADC (<=10MSPS); DatasheetVersion: SLAS364D; PackageVersion: 4073176/B, 10/1996; PackageReference: PFB48; PackageDescription: 48-Pin Plastic Flat Pack, Body 7 x 7 mm, Pitch 0.5 mm; Supplier 1: Digi-Key; Supplier Part Number 1: ADS901E-ND; Supplier 2: Mouser; Supplier Part Number 2: 595-ADS901E; Digital Supply(Max)(V): 5.25; Eco-Plan: Green (RoHS & no Sb/Br); SNR(dB): 88; Mounting Technology: Surface Mount; Code_JEDEC: MS-026; ComponentLink1Description: Manufacturer URL; ComponentLink1URL: http://www.ti.com/; ComponentLink2Description: Datasheet; ComponentLink2URL: http://www.ti.com/general/docs/lit/getliterature.tsp?genericPartNumber=ADS8381&fileType=pdf; ComponentLink3Description: Package Specification; ComponentLink3URL: http://www.ti.com/lit/ml/mtqf019a/mtqf019a.pdf
footprint TI-PFB48_N (QFP, 48-Leads, Body 7x7mm, Pitch 0.5mm, IPC Medium Density)
footprint TI-PFB48_L (QFP, 48-Leads, Body 7x7mm, Pitch 0.5mm, IPC High Density)
footprint TI-PFB48_M (QFP, 48-Leads, Body 7x7mm, Pitch 0.5mm, IPC Low Density)
part A pins: 1 REFIN (in) "Reference input.", 2 NC "No connection", 3 NC "No connection", 6 IN+ (in) "Noninverting input channel", 7 IN- (in) "Inverting input channel", 16 DB17 (hiz), 17 DB16 (hiz), 18 DB15 (hiz), 19 DB14 (hiz), 20 DB13 (hiz), 21 DB12 (hiz), 22 DB11 (hiz), 23 DB10 (hiz), 26 DB9 (hiz), 27 DB8 (hiz), 28 DB7 (hiz), 29 DB6 (hiz), 30 DB5 (hiz), 31 DB4 (hiz), 32 DB3 (hiz), 33 DB2 (hiz), 34 DB1 (hiz), 35 DB0 (hiz), 36 BUSY (out) "Status output. High when a conversion is in progress.", 38 BUS18/~{16} (in), 39 BYTE (in) "Byte select input. Used for 8-bit bus reading. 0: No fold back 1: Low byte D[9:2] of the 16 most significant bits is folded back to high byte of the 16 most significant pins DB[17:10].", 40 ~{CONVST} (in) "Convert start. The falling edge of this input ends the acquisition period and starts the hold period.", 41 ~{RD} (in) "Synchronization pulse for the parallel output. When C\S\ is low, this serves as the output enable and puts the previous conversion result on the bus.", 42 ~{CS} (in) "Chip select. The falling edge of this input starts the acquisition period.", 47 REFM (power) "Reference ground.", 48 REFM (power) "Reference ground."
part B pins: 4 VA+ (power) "Analog power supplies, 5-V dc", 5 AGND (power) "Analog ground", 8 AGND (power) "Analog ground", 9 VA+ (power) "Analog power supplies, 5-V dc", 10 VA+ (power) "Analog power supplies, 5-V dc", 11 AGND (power) "Analog ground", 12 AGND (power) "Analog ground", 13 VA+ (power) "Analog power supplies, 5-V dc", 14 AGND (power) "Analog ground", 15 AGND (power) "Analog ground", 24 VBD+ (power) "Digital power supply for buffer", 25 BDGND (power) "Digital ground for buffer supply", 37 VBD+ (power) "Digital power supply for buffer", 43 VA+ (power) "Analog power supplies, 5-V dc", 44 AGND (power) "Analog ground", 45 AGND (power) "Analog ground", 46 VA+ (power) "Analog power supplies, 5-V dc"

## ADS8381IBPFBTG4
designator U?
18-Bit 580 kSPS Parallel ADC, -40 to 85 degC, 48-pin QFP (PFB48), Green (RoHS & no Sb/Br); Manufacturer: Texas Instruments; PartNumber: ADS8381IBPFBTG4; # Input Channels: 1; Analog Voltage AV/DD(Max)(V): 5.25; Analog Voltage AV/DD(Min)(V): 4.75; Architecture: SAR; Digital Supply(Min)(V): 2.7; INL(Max)(+/-LSB): 4; Interface: Parallel CMOS; Resolution(Bits): 18; Sample Rate (max)(SPS): 600k; SFDR(dB): 113; SINAD(dB): 88; SubFamily: Precision ADC (<=10MSPS); DatasheetVersion: SLAS364D; PackageVersion: 4073176/B, 10/1996; PackageReference: PFB48; PackageDescription: 48-Pin Plastic Flat Pack, Body 7 x 7 mm, Pitch 0.5 mm; Supplier 1: Digi-Key; Supplier Part Number 1: ADS901EG4-ND; Supplier 2: Mouser; Supplier Part Number 2: 595-ADS901EG4; Digital Supply(Max)(V): 5.25; Eco-Plan: Green (RoHS & no Sb/Br); SNR(dB): 88; Mounting Technology: Surface Mount; Code_JEDEC: MS-026; ComponentLink1Description: Manufacturer URL; ComponentLink1URL: http://www.ti.com/; ComponentLink2Description: Datasheet; ComponentLink2URL: http://www.ti.com/general/docs/lit/getliterature.tsp?genericPartNumber=ADS8381&fileType=pdf; ComponentLink3Description: Package Specification; ComponentLink3URL: http://www.ti.com/lit/ml/mtqf019a/mtqf019a.pdf
footprint TI-PFB48_N (QFP, 48-Leads, Body 7x7mm, Pitch 0.5mm, IPC Medium Density)
footprint TI-PFB48_L (QFP, 48-Leads, Body 7x7mm, Pitch 0.5mm, IPC High Density)
footprint TI-PFB48_M (QFP, 48-Leads, Body 7x7mm, Pitch 0.5mm, IPC Low Density)
part A pins: 1 REFIN (in) "Reference input.", 2 NC "No connection", 3 NC "No connection", 6 IN+ (in) "Noninverting input channel", 7 IN- (in) "Inverting input channel", 16 DB17 (hiz), 17 DB16 (hiz), 18 DB15 (hiz), 19 DB14 (hiz), 20 DB13 (hiz), 21 DB12 (hiz), 22 DB11 (hiz), 23 DB10 (hiz), 26 DB9 (hiz), 27 DB8 (hiz), 28 DB7 (hiz), 29 DB6 (hiz), 30 DB5 (hiz), 31 DB4 (hiz), 32 DB3 (hiz), 33 DB2 (hiz), 34 DB1 (hiz), 35 DB0 (hiz), 36 BUSY (out) "Status output. High when a conversion is in progress.", 38 BUS18/~{16} (in), 39 BYTE (in) "Byte select input. Used for 8-bit bus reading. 0: No fold back 1: Low byte D[9:2] of the 16 most significant bits is folded back to high byte of the 16 most significant pins DB[17:10].", 40 ~{CONVST} (in) "Convert start. The falling edge of this input ends the acquisition period and starts the hold period.", 41 ~{RD} (in) "Synchronization pulse for the parallel output. When C\S\ is low, this serves as the output enable and puts the previous conversion result on the bus.", 42 ~{CS} (in) "Chip select. The falling edge of this input starts the acquisition period.", 47 REFM (power) "Reference ground.", 48 REFM (power) "Reference ground."
part B pins: 4 VA+ (power) "Analog power supplies, 5-V dc", 5 AGND (power) "Analog ground", 8 AGND (power) "Analog ground", 9 VA+ (power) "Analog power supplies, 5-V dc", 10 VA+ (power) "Analog power supplies, 5-V dc", 11 AGND (power) "Analog ground", 12 AGND (power) "Analog ground", 13 VA+ (power) "Analog power supplies, 5-V dc", 14 AGND (power) "Analog ground", 15 AGND (power) "Analog ground", 24 VBD+ (power) "Digital power supply for buffer", 25 BDGND (power) "Digital ground for buffer supply", 37 VBD+ (power) "Digital power supply for buffer", 43 VA+ (power) "Analog power supplies, 5-V dc", 44 AGND (power) "Analog ground", 45 AGND (power) "Analog ground", 46 VA+ (power) "Analog power supplies, 5-V dc"

## ADS8381IPFBT
designator U?
18-Bit 580 kSPS Parallel ADC, -40 to 85 degC, 48-pin QFP (PFB48), Green (RoHS & no Sb/Br); Manufacturer: Texas Instruments; PartNumber: ADS8381IPFBT; # Input Channels: 1; Analog Voltage AV/DD(Max)(V): 5.25; Analog Voltage AV/DD(Min)(V): 4.75; Architecture: SAR; Digital Supply(Min)(V): 2.7; INL(Max)(+/-LSB): 5; Interface: Parallel CMOS; Resolution(Bits): 18; Sample Rate (max)(SPS): 600k; SFDR(dB): 112; SINAD(dB): 87; SubFamily: Precision ADC (<=10MSPS); DatasheetVersion: SLAS364D; PackageVersion: 4073176/B, 10/1996; PackageReference: PFB48; PackageDescription: 48-Pin Plastic Flat Pack, Body 7 x 7 mm, Pitch 0.5 mm; Supplier 1: Digi-Key; Supplier Part Number 1: ADS7815U-ND; Supplier 2: Newark; Supplier Part Number 2: 80K5553; Supplier 3: Mouser; Supplier Part Number 3: 595-ADS7815U; Digital Supply(Max)(V): 5.25; Eco-Plan: Green (RoHS & no Sb/Br); SNR(dB): 87; Mounting Technology: Surface Mount; Code_JEDEC: MS-026; ComponentLink1Description: Manufacturer URL; ComponentLink1URL: http://www.ti.com/; ComponentLink2Description: Datasheet; ComponentLink2URL: http://www.ti.com/general/docs/lit/getliterature.tsp?genericPartNumber=ADS8381&fileType=pdf; ComponentLink3Description: Package Specification; ComponentLink3URL: http://www.ti.com/lit/ml/mtqf019a/mtqf019a.pdf
footprint TI-PFB48_N (QFP, 48-Leads, Body 7x7mm, Pitch 0.5mm, IPC Medium Density)
footprint TI-PFB48_L (QFP, 48-Leads, Body 7x7mm, Pitch 0.5mm, IPC High Density)
footprint TI-PFB48_M (QFP, 48-Leads, Body 7x7mm, Pitch 0.5mm, IPC Low Density)
part A pins: 1 REFIN (in) "Reference input.", 2 NC "No connection", 3 NC "No connection", 6 IN+ (in) "Noninverting input channel", 7 IN- (in) "Inverting input channel", 16 DB17 (hiz), 17 DB16 (hiz), 18 DB15 (hiz), 19 DB14 (hiz), 20 DB13 (hiz), 21 DB12 (hiz), 22 DB11 (hiz), 23 DB10 (hiz), 26 DB9 (hiz), 27 DB8 (hiz), 28 DB7 (hiz), 29 DB6 (hiz), 30 DB5 (hiz), 31 DB4 (hiz), 32 DB3 (hiz), 33 DB2 (hiz), 34 DB1 (hiz), 35 DB0 (hiz), 36 BUSY (out) "Status output. High when a conversion is in progress.", 38 BUS18/~{16} (in), 39 BYTE (in) "Byte select input. Used for 8-bit bus reading. 0: No fold back 1: Low byte D[9:2] of the 16 most significant bits is folded back to high byte of the 16 most significant pins DB[17:10].", 40 ~{CONVST} (in) "Convert start. The falling edge of this input ends the acquisition period and starts the hold period.", 41 ~{RD} (in) "Synchronization pulse for the parallel output. When C\S\ is low, this serves as the output enable and puts the previous conversion result on the bus.", 42 ~{CS} (in) "Chip select. The falling edge of this input starts the acquisition period.", 47 REFM (power) "Reference ground.", 48 REFM (power) "Reference ground."
part B pins: 4 VA+ (power) "Analog power supplies, 5-V dc", 5 AGND (power) "Analog ground", 8 AGND (power) "Analog ground", 9 VA+ (power) "Analog power supplies, 5-V dc", 10 VA+ (power) "Analog power supplies, 5-V dc", 11 AGND (power) "Analog ground", 12 AGND (power) "Analog ground", 13 VA+ (power) "Analog power supplies, 5-V dc", 14 AGND (power) "Analog ground", 15 AGND (power) "Analog ground", 24 VBD+ (power) "Digital power supply for buffer", 25 BDGND (power) "Digital ground for buffer supply", 37 VBD+ (power) "Digital power supply for buffer", 43 VA+ (power) "Analog power supplies, 5-V dc", 44 AGND (power) "Analog ground", 45 AGND (power) "Analog ground", 46 VA+ (power) "Analog power supplies, 5-V dc"

## ADS8381IPFBTG4
designator U?
18-Bit 580 kSPS Parallel ADC, -40 to 85 degC, 48-pin QFP (PFB48), Green (RoHS & no Sb/Br); Manufacturer: Texas Instruments; PartNumber: ADS8381IPFBTG4; # Input Channels: 1; Analog Voltage AV/DD(Max)(V): 5.25; Analog Voltage AV/DD(Min)(V): 4.75; Architecture: SAR; Digital Supply(Min)(V): 2.7; INL(Max)(+/-LSB): 5; Interface: Parallel CMOS; Resolution(Bits): 18; Sample Rate (max)(SPS): 600k; SFDR(dB): 112; SINAD(dB): 87; SubFamily: Precision ADC (<=10MSPS); DatasheetVersion: SLAS364D; PackageVersion: 4073176/B, 10/1996; PackageReference: PFB48; PackageDescription: 48-Pin Plastic Flat Pack, Body 7 x 7 mm, Pitch 0.5 mm; Supplier 1: Digi-Key; Supplier Part Number 1: ADS7815U/1K-ND; Supplier 2: Mouser; Supplier Part Number 2: 595-ADS7815U/1K; Digital Supply(Max)(V): 5.25; Eco-Plan: Green (RoHS & no Sb/Br); SNR(dB): 87; Mounting Technology: Surface Mount; Code_JEDEC: MS-026; ComponentLink1Description: Manufacturer URL; ComponentLink1URL: http://www.ti.com/; ComponentLink2Description: Datasheet; ComponentLink2URL: http://www.ti.com/general/docs/lit/getliterature.tsp?genericPartNumber=ADS8381&fileType=pdf; ComponentLink3Description: Package Specification; ComponentLink3URL: http://www.ti.com/lit/ml/mtqf019a/mtqf019a.pdf
footprint TI-PFB48_N (QFP, 48-Leads, Body 7x7mm, Pitch 0.5mm, IPC Medium Density)
footprint TI-PFB48_L (QFP, 48-Leads, Body 7x7mm, Pitch 0.5mm, IPC High Density)
footprint TI-PFB48_M (QFP, 48-Leads, Body 7x7mm, Pitch 0.5mm, IPC Low Density)
part A pins: 1 REFIN (in) "Reference input.", 2 NC "No connection", 3 NC "No connection", 6 IN+ (in) "Noninverting input channel", 7 IN- (in) "Inverting input channel", 16 DB17 (hiz), 17 DB16 (hiz), 18 DB15 (hiz), 19 DB14 (hiz), 20 DB13 (hiz), 21 DB12 (hiz), 22 DB11 (hiz), 23 DB10 (hiz), 26 DB9 (hiz), 27 DB8 (hiz), 28 DB7 (hiz), 29 DB6 (hiz), 30 DB5 (hiz), 31 DB4 (hiz), 32 DB3 (hiz), 33 DB2 (hiz), 34 DB1 (hiz), 35 DB0 (hiz), 36 BUSY (out) "Status output. High when a conversion is in progress.", 38 BUS18/~{16} (in), 39 BYTE (in) "Byte select input. Used for 8-bit bus reading. 0: No fold back 1: Low byte D[9:2] of the 16 most significant bits is folded back to high byte of the 16 most significant pins DB[17:10].", 40 ~{CONVST} (in) "Convert start. The falling edge of this input ends the acquisition period and starts the hold period.", 41 ~{RD} (in) "Synchronization pulse for the parallel output. When C\S\ is low, this serves as the output enable and puts the previous conversion result on the bus.", 42 ~{CS} (in) "Chip select. The falling edge of this input starts the acquisition period.", 47 REFM (power) "Reference ground.", 48 REFM (power) "Reference ground."
part B pins: 4 VA+ (power) "Analog power supplies, 5-V dc", 5 AGND (power) "Analog ground", 8 AGND (power) "Analog ground", 9 VA+ (power) "Analog power supplies, 5-V dc", 10 VA+ (power) "Analog power supplies, 5-V dc", 11 AGND (power) "Analog ground", 12 AGND (power) "Analog ground", 13 VA+ (power) "Analog power supplies, 5-V dc", 14 AGND (power) "Analog ground", 15 AGND (power) "Analog ground", 24 VBD+ (power) "Digital power supply for buffer", 25 BDGND (power) "Digital ground for buffer supply", 37 VBD+ (power) "Digital power supply for buffer", 43 VA+ (power) "Analog power supplies, 5-V dc", 44 AGND (power) "Analog ground", 45 AGND (power) "Analog ground", 46 VA+ (power) "Analog power supplies, 5-V dc"